# Altium footprint library EncoderDIP4.PcbLib: 4 footprints
Each footprint in its own frame and in the unit in brackets; x right, y up, seen from the top. Pads: shape width x height; smd on the part's side, far side on the other; paste and mask are expansions set on the pad; w line width, h text height; cw(c..) or ccw(c..) is an arc to the next point about the centre after c.
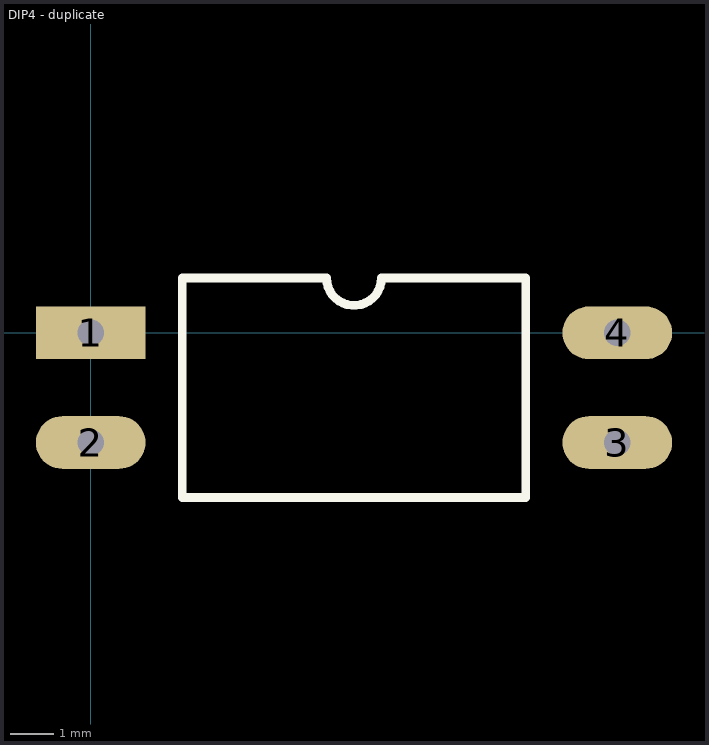
[diagram p0: the footprints below, top view; thin cyan lines are the x and y axes]

## DIP4 [mm]

## DIP4 - duplicate [mm]
pads (4):
  rect 2.5x1.2 hole 0.6: 1(0,0)
  oval 2.5x1.2 hole 0.6: 2(0,-2.5) 3(12,-2.5) 4(12,0)
Top Overlay:
  lines w0.2: 2.085,-3.75 2.085,1.25 5.375,1.25 ccw(c6,1.25) 6.625,1.25 9.915,1.25 9.915,-3.75 2.085,-3.75

## PCBComponent_1 [mm]

## PCBComponent_1 - duplicate [mm]